# Altium schematic symbol library opto_electronic.SchLib: 1 symbol
Pins are listed as number, name and electrical type; pins without a type are passive.

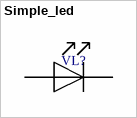
[diagram p0: symbol Simple_led]

## Simple_led
designator VL?  (value not drawn)
footprint SIMPLE
pins: 1, 2